# Altium schematic symbol library THU VIEN CHAN v1.SchLib: 217 symbols (part 2 of 2)
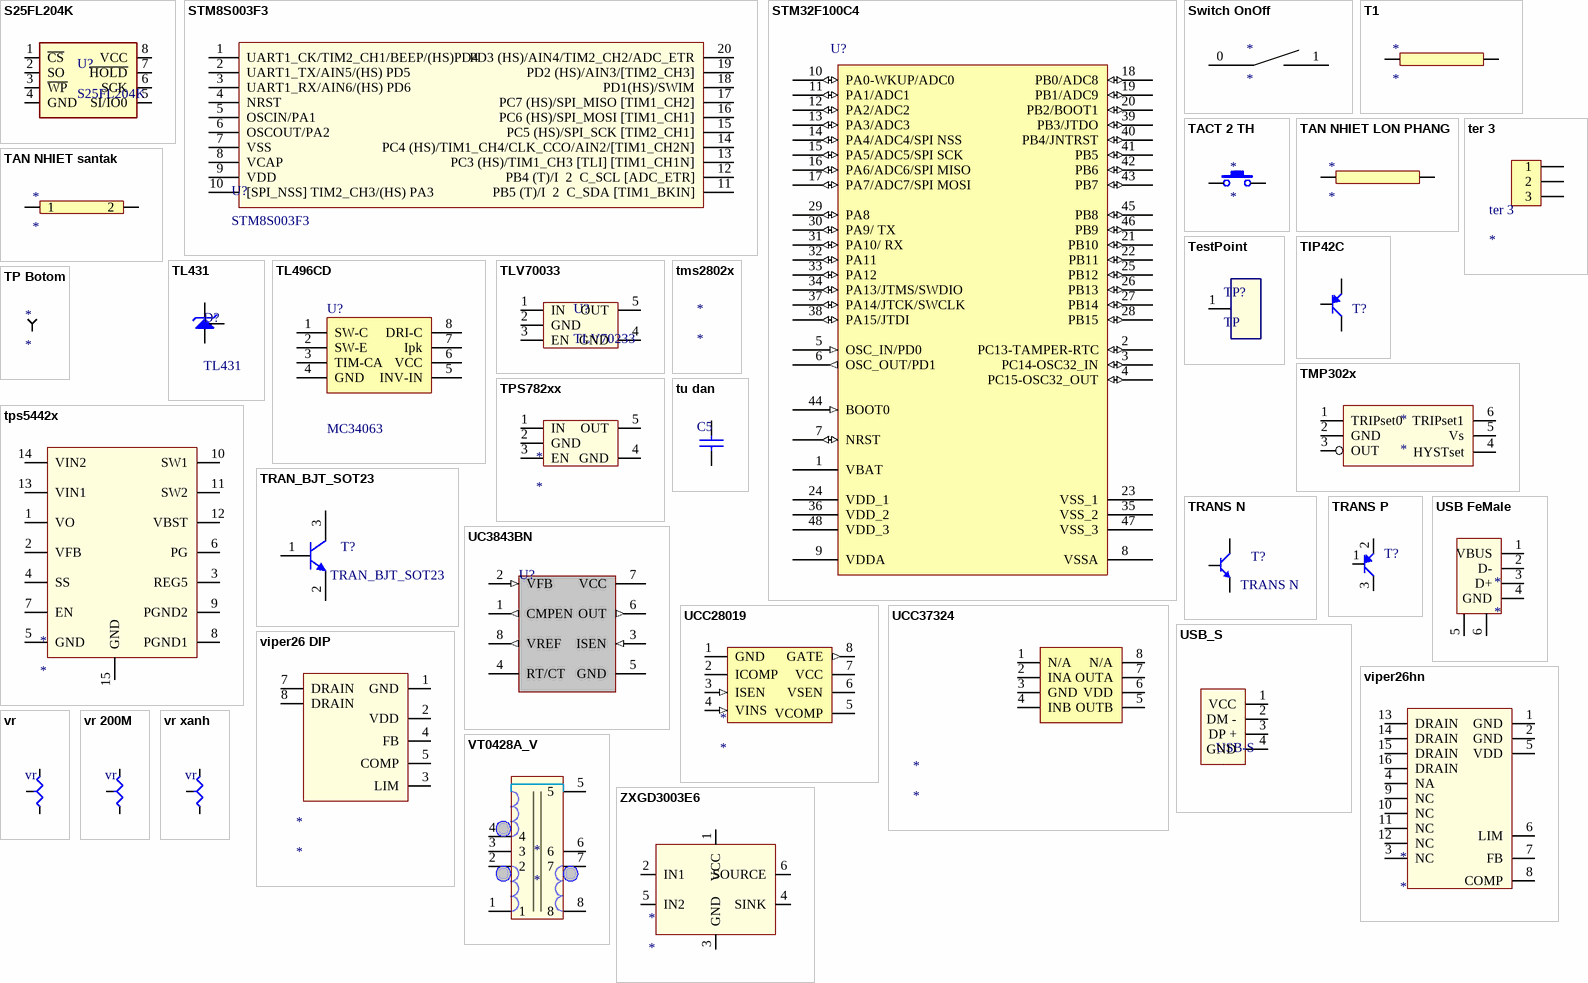
[diagram p6: symbols S25FL204K to ZXGD3003E6]

## TRAN_BJT_SOT23
designator T?
NPN Bipolar Transistor; Published: 8-Jun-2000; LatestRevisionDate: 17-Jul-2002; LatestRevisionNote: Re-released for DXP Platform.; PackageReference: TO-226; Publisher: Altium Limited; Code_JEDEC: TO-226-AA
footprint SOT_23_TO_236AB (SOT23 OR TO-236AB)
simulation model NPN
signal-integrity model NPN
pins: 1 B, 2 E, 3 C

## TRANS N
designator T?
NPN Bipolar Transistor; Published: 8-Jun-2000; LatestRevisionDate: 17-Jul-2002; LatestRevisionNote: Re-released for DXP Platform.; PackageReference: TO-226; Publisher: Altium Limited; Code_JEDEC: TO-226-AA
footprint tran
simulation model NPN
signal-integrity model NPN
pins: 1 B, 2 E, 3 C

## TRANS P
designator T?
PNP Bipolar Transistor; Published: 8-Jun-2000; LatestRevisionDate: 17-Jul-2002; LatestRevisionNote: Re-released for DXP Platform.; PackageReference: SOT-23B; Publisher: Altium Limited; Code_JEDEC: SOT-23
simulation model PNP
signal-integrity model PNP
footprint SOT_23_TO_236AB (SOT23 OR TO-236AB)
pins: 1 B, 2 E, 3 C

## tu dan
designator C5
Capacitor; Value: 100pF; Published: 8-Jun-2000; LatestRevisionDate: 17-Jul-2002; LatestRevisionNote: Re-released for DXP Platform.; PackageReference: RAD-0.3; Publisher: Altium Limited
footprint 1206
footprint VP32-3.2 (Capacitor, Ceramic, Thru-Hole, Dipped Radial; Body 5.1 x 3.2 mm (WxT) Pin Spacing 2.54 mm (typ))
footprint VP45-3.2 (Capacitor, Ceramic, Thru-Hole, Dipped Radial; Body 7.8 x 3.2 mm (WxT) Pin Spacing 5.08 mm (typ))
simulation model CAP (Capacitor)
signal-integrity model Cap
pins: 1, 2

## UC3843BN
designator U?
High Performance Current Mode Controller; Published: 15-Apr-2002; DatasheetVersion: 1996; PackageVersion: 1998; PackageReference: 626-05; Publisher: Altium Limited; PackageDescription: DIP; 8 Leads; Row Spacing 7.62 mm; Pitch 2.54 mm; ComponentLink1Description: Manufacturer Link; ComponentLink1URL: http://www.onsemi.com/site/products/taxonomy/0,4438,503,00.html; ComponentLink2Description: Datasheet; ComponentLink2URL: http://www.onsemi.com/pub/Collateral/UC3842B.PDF
footprint 626-05 (DIP; 8 Leads; Row Spacing 7.62 mm; Pitch 2.54 mm)
pins: 1 CMPEN (out), 2 VFB (in), 3 ISEN (in), 4 RT/CT, 5 GND (power), 6 OUT (out), 7 VCC (power), 8 VREF (out)

## UCC28019
designator *
footprint DIP 8 (DIP; 8 Leads; Row Spacing 7.62 mm; Pitch 2.54 mm)
pins: 1 GND (power), 2 ICOMP, 3 ISEN (in), 4 VINS (in), 5 VCOMP, 6 VSEN, 7 VCC (power), 8 GATE (out)

## UCC37324
designator *
footprint JG008 (DIP; 8 Leads; Row Spacing 7.62 mm; Pitch 2.54 mm)
pins: 1 N/A, 2 INA, 3 GND, 4 INB, 5 OUTB, 6 VDD, 7 OUTA, 8 N/A

## USB FeMale
designator *
footprint USB-A (USB A connector, 4pin, For USB sing)
pins: 1 VBUS, 2 D-, 3 D+, 4 GND, 5 NONE, 6 NON

## USB_S
designator USB?, comment USB-S
USB connector; Value: USB
footprint USB-M (For USB SMD)
footprint USB-A V1 (USB A connector, 4pin, For USB sing)
pins: 1 VCC, 2 DM -, 3 DP +, 4 GND, 5, 6

## viper26 DIP
designator *
footprint lnk306p
pins: 1 GND, 2 VDD, 3 LIM, 4 FB, 5 COMP, 7 DRAIN, 8 DRAIN

## viper26hn
designator *
footprint VIP26
pins: 1 GND, 2 GND, 3 NC, 4 NA, 5 VDD, 6 LIM, 7 FB, 8 COMP, 9 NC, 10 NC, 11 NC, 12 NC, 13 DRAIN, 14 DRAIN, 15 DRAIN, 16 DRAIN

## vr
designator vr
V Resistor; Sim Note: Enter the Resistance value and the set point into parameter fields.; Set Position: 0.5; Value: 1K; Published: 24-Mar-1999; LatestRevisionDate: 17-Jul-2002; LatestRevisionNote: Re-released for DXP Platform.; PackageReference: VR3; Publisher: Altium Limited
footprint btn
simulation model POT (Potentiometer)
signal-integrity model Res Tap
pins: 1 A, 2 VR, 3 B

## vr 200M
designator vr
V Resistor; Sim Note: Enter the Resistance value and the set point into parameter fields.; Set Position: 0.5; Value: 1K; Published: 24-Mar-1999; LatestRevisionDate: 17-Jul-2002; LatestRevisionNote: Re-released for DXP Platform.; PackageReference: VR3; Publisher: Altium Limited
footprint HDR1X3 (Connector; Header; 3 Position)
simulation model POT (Potentiometer)
signal-integrity model Res Tap
pins: 1 A, 2 VR, 3 B

## vr xanh
designator vr
V Resistor; Sim Note: Enter the Resistance value and the set point into parameter fields.; Set Position: 0.5; Value: 1K; Published: 24-Mar-1999; LatestRevisionDate: 17-Jul-2002; LatestRevisionNote: Re-released for DXP Platform.; PackageReference: VR3; Publisher: Altium Limited
footprint VR1
simulation model POT (Potentiometer)
signal-integrity model Res Tap
pins: 1 A, 2 VR, 3 B

## VT0428A_V
designator *
footprint TRANSFORMER_VT0428A
pins: 1, 2, 3, 4, 5, 6, 7, 8

## ZXGD3003E6
designator *
footprint SOT236
pins: 1 VCC, 2 IN1, 3 GND, 4 SINK, 5 IN2, 6 SOURCE